# Altium footprint library SPT3G_LCBoard.PcbLib: 18 footprints (part 2 of 2)
Each footprint in its own frame and in the unit in brackets; x right, y up, seen from the top. Pads: shape width x height; smd on the part's side, far side on the other; paste and mask are expansions set on the pad; w line width, h text height; cw(c..) or ccw(c..) is an arc to the next point about the centre after c.
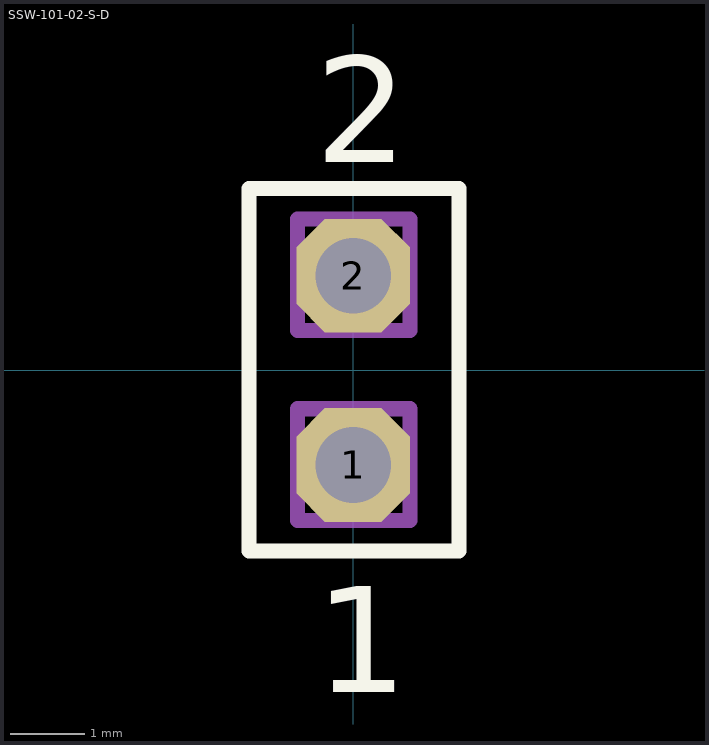
[diagram p1: the footprints below, top view; thin cyan lines are the x and y axes]

## PCBComponent_1 [mm]

## SSW-101-02-S-D [mil] "SSW-101-02-S-D"
pads (2):
  oct 60x60 hole 40: 1(0,-50) 2(0,50)
Top Overlay:
  lines w8: -55.08,-95.47 -55.08,96 56,96 56,-95.47 -55.08,-95.47
  text "2" at -20,110 h56.1
  text "1" at -20,-170 h56.1
Mechanical 16:
  lines w8: -29.33,-79.33 -29.33,-20.28 30,-20.28 30,-79.33 -29.33,-79.33 ; -29.33,21 -29.33,80 30,80 30,21 -29.33,21